# EAGLE library part PCA9515 (library Eagle-JeeLabs)
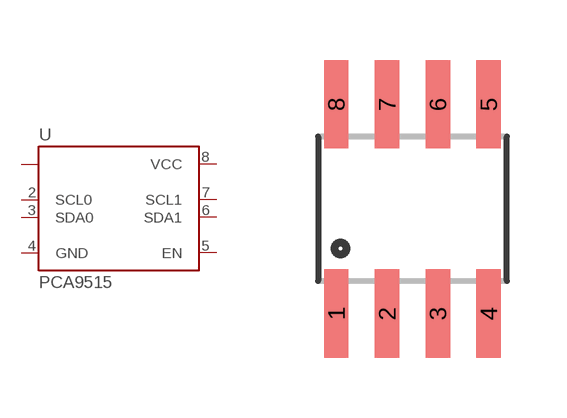
[diagram p15: symbol with the pads of SO08; footprint SO08]

Designator prefix -

## PCA9515SOIC  [SO08]
1  N.C.  nc
2  SCL0
3  SDA0
4  GND
5  EN
6  SDA1
7  SCL1
8  VCC

## Footprint SO08 (pad centres in mm)
Small Outline Package Fits JEDEC packages (narrow SOIC-8)
smd 0.61 x 2.21: 1 -1.905,-2.616; 2 -0.635,-2.616; 3 0.635,-2.616; 4 1.905,-2.616; 5 1.905,2.616; 6 0.635,2.616; 7 -0.635,2.616; 8 -1.905,2.616